# EAGLE library part LOGICLEVELCONVERTER (library mecanum-symbols)
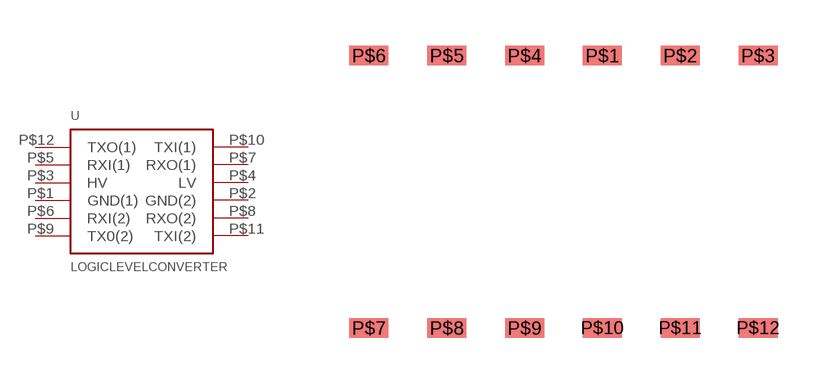
[diagram p1: symbol with the pads of LOGICLEVELCONVERTER; footprint LOGICLEVELCONVERTER]

Designator prefix -

## LOGICLEVELCONVERTER  [LOGICLEVELCONVERTER]
P$1  GND(1)
P$2  GND(2)
P$3  HV
P$4  LV
P$5  RXI(1)
P$6  RXI(2)
P$7  RXO(1)
P$8  RXO(2)
P$9  TX0(2)
P$10  TXI(1)
P$11  TXI(2)
P$12  TXO(1)

## Footprint LOGICLEVELCONVERTER (pad centres in mm)
smd 1.27 x 0.635: P$1 1.27,5.08; P$2 3.81,5.08; P$3 6.35,5.08; P$4 -1.27,5.08; P$5 -3.81,5.08; P$6 -6.35,5.08; P$7 -6.35,-3.81; P$8 -3.81,-3.81; P$9 -1.27,-3.81; P$10 1.27,-3.81; P$11 3.81,-3.81; P$12 6.35,-3.81